# Altium footprint library LQ-TC2&3MB-V5.PcbLib: 38 footprints (part 2 of 3)
Each footprint in its own frame and in the unit in brackets; x right, y up, seen from the top. Pads: shape width x height; smd on the part's side, far side on the other; paste and mask are expansions set on the pad; w line width, h text height; cw(c..) or ccw(c..) is an arc to the next point about the centre after c.
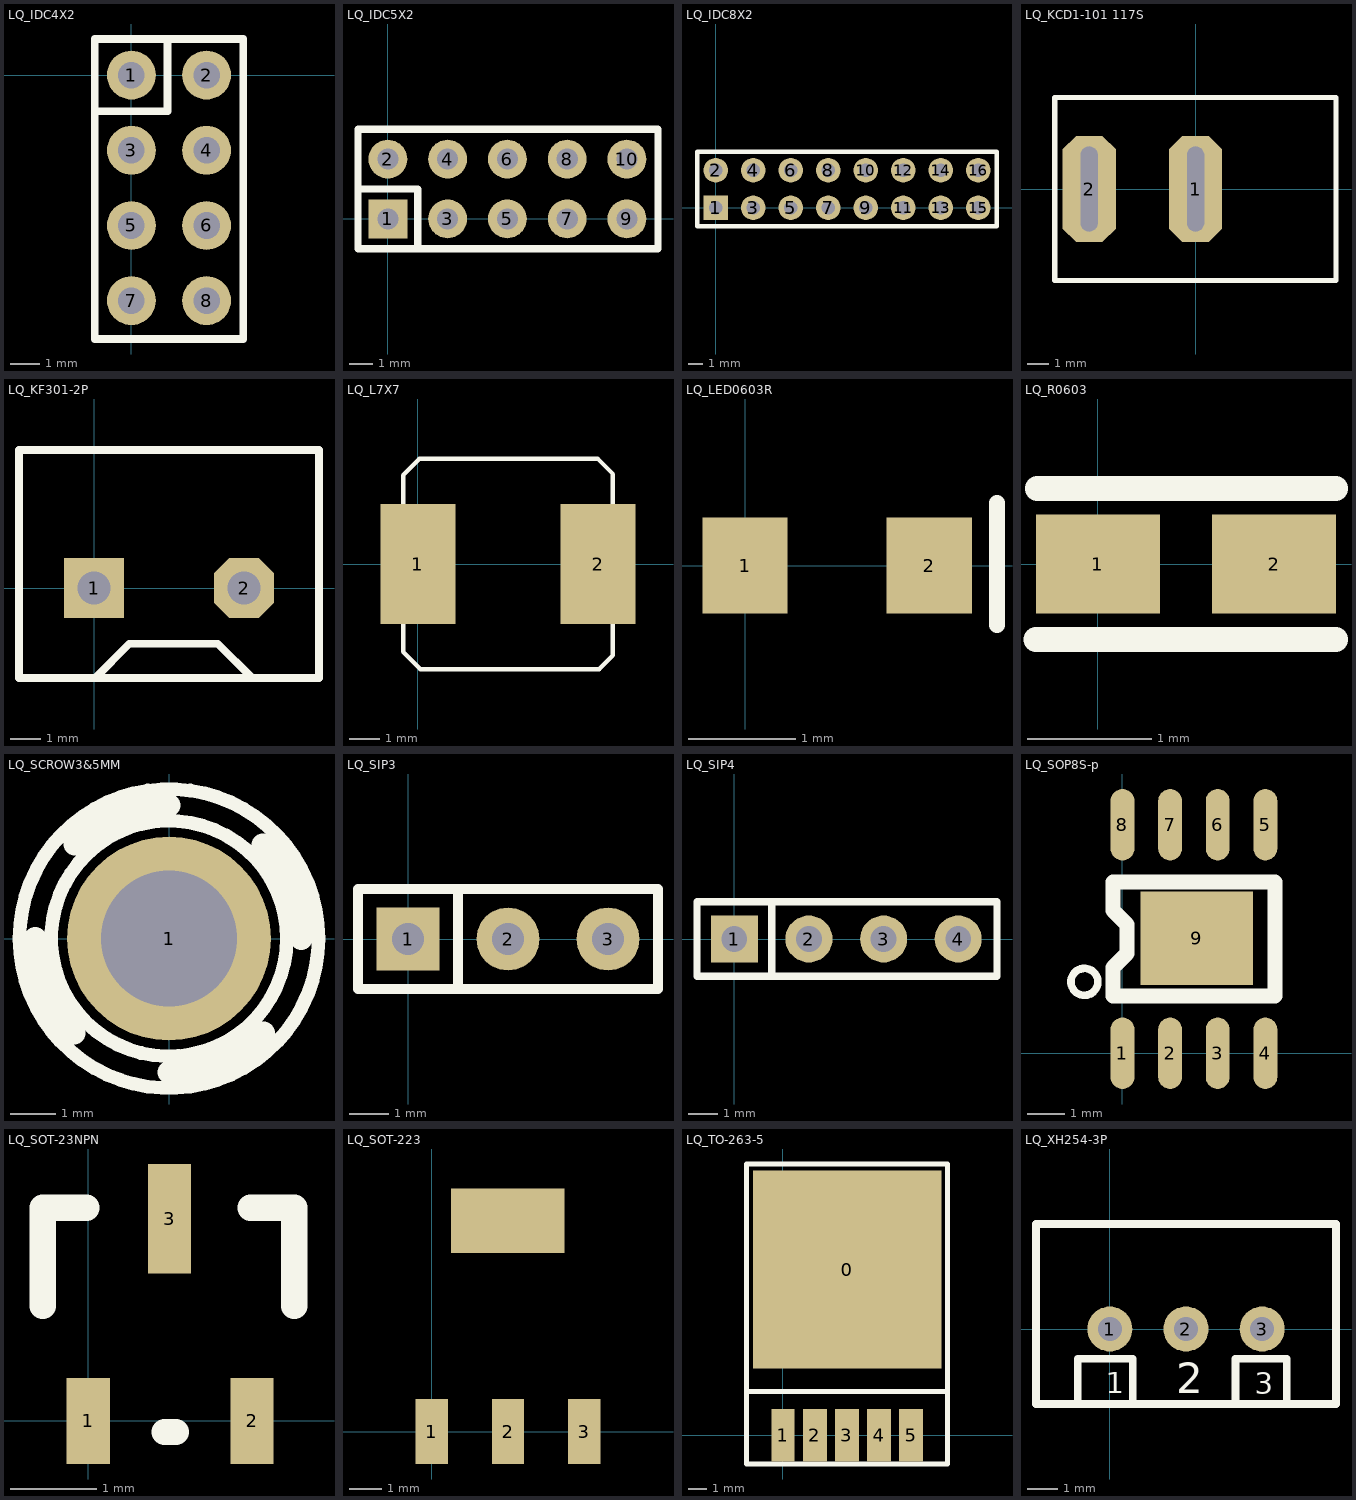
[diagram p1: the footprints below, top view; thin cyan lines are the x and y axes]

## LQ_IDC4X2 [mm]
pads (8):
  round 1.65 hole 0.9: 1(0,0) 2(2.54,0) 3(0,-2.54) 4(2.54,-2.54) 5(0,-5.08) 6(2.54,-5.08) 7(0,-7.62) 8(2.54,-7.62)
Top Overlay:
  lines w0.254: -1.245,-1.219 1.219,-1.219 1.219,1.219 ; -1.245,0.051 -1.245,0.076 ; -1.245,-8.915 3.785,-8.915 3.785,1.219 -1.245,1.219 -1.245,-8.915
3D body "Female-Header-2.54-Double-8.stp": height 8.5, standoff -3.2, extent -1.17,-9.015 3.83,1.395

## LQ_IDC5X2 [mm]
pads (10):
  rect 1.65x1.65 hole 0.9: 1(0,0)
  round 1.65 hole 0.9: 2(0,2.54) 3(2.54,0) 4(2.54,2.54) 5(5.08,0) 6(5.08,2.54) 7(7.62,0) 8(7.62,2.54) 9(10.16,0) 10(10.16,2.54)
Top Overlay:
  lines w0.305: -1.27,1.27 1.27,1.27 1.27,-1.27 ; -1.27,-1.27 -1.27,3.81 11.481,3.81 11.481,-1.27 -1.27,-1.27
3D body "Pin-Header-2.54-Double-10.stp": height 8.5, standoff -3, extent -1.25,-1.26 11.45,3.82

## LQ_IDC8X2 [mm]
pads (16):
  rect 1.65x1.65 hole 0.9: 1(0,0)
  round 1.65 hole 0.9: 2(0,2.54) 3(2.54,0) 4(2.54,2.54) 5(5.08,0) 6(5.08,2.54) 7(7.62,0) 8(7.62,2.54) 9(10.16,0) 10(10.16,2.54) 11(12.7,0) 12(12.7,2.54) 13(15.24,0) 14(15.24,2.54) 15(17.78,0) 16(17.78,2.54)
Top Overlay:
  lines w0.305: -1.27,-1.27 -1.27,3.81 19.05,3.81 19.05,-1.27 -1.27,-1.27

## LQ_KCD1-101 117S [mm]
pads (2):
  oct 2.5x5 hole 0.8 slot 4 at 90 deg: 1(0,0) 2(-5,0)
Top Overlay:
  lines w0.254: -6.61,-4.28 -6.61,4.3 ; -6.6,-4.3 6.6,-4.3 6.6,4.29 ; -6.6,4.3 6.6,4.3
3D body "KCD11-A-101O11RB.STEP": height 14.1, standoff -5, extent -7.54,-5.47 7.46,5.03

## LQ_KF301-2P [mm]
height 1.6
pads (2):
  rect 2x2 hole 1.1: 1(0,0)
  oct 2x2 hole 1.1: 2(5,0)
Top Overlay:
  lines w0.254: 0.04,-3 1.18,-1.86 4.13,-1.86 5.27,-3 ; -2.5,-3 7.5,-3 7.5,4.6 -2.5,4.6 -2.5,-3
3D body "Header-KF301-2.STEP": height 10, standoff -3, extent -2.81,-2.97 7.79,4.63

## LQ_L7X7 [mm]
pads (2):
  rect 2.5x4 smd: 1(0,0) 2(6,0)
Top Overlay:
  lines w0.15: -0.5,-2.93 -0.5,-2.52 -0.5,2.75 -0.5,2.96 0.04,3.5 6,3.5 6.5,3 6.5,2.76 6.5,-2.82 6.5,-3.04 6.04,-3.5 0.07,-3.5 -0.5,-2.93
3D body "L7X7.STEP": height 3, standoff 0, extent -0.605,-3.52 6.645,3.18

## LQ_LED0603R [mm]
pads (2):
  rect 0.8x0.9 smd: 1(0,0) 2(1.727,0)
Top Overlay:
  lines w0.15: 2.362,-0.556 2.362,0.584
3D body "LQ_LED0603R.STEP": height 0.9, standoff 0, extent 0.02,-0.45 1.72,0.45

## LQ_R0603 [mm]
pads (2):
  rect 1x0.8 smd: 1(0,0) 2(1.422,0)
Top Overlay:
  lines w0.2: -0.5,-0.61 1.92,-0.61 ; -0.49,0.61 1.92,0.61
3D body "RES-0603.step": height 0.48, standoff 0.02, extent -0.08,-0.4 1.52,0.4

## LQ_SCROW3&5MM [mm]
pads (1):
  round 4.5 hole 3: 1(0,0)
Top Overlay:
  circle w0.3: c0,0 r2.6
  circle w0.3: c0,0 r3.3
  lines w0.5: -2.952,0 ccw(c0,0) -2.088,-2.088 ; -2.081,2.081 cw(c0,0) 0,2.943 ; 0,-2.95 ccw(c0,0) 2.086,-2.086 ; 2.066,2.066 cw(c0,0) 2.922,0
Bottom Overlay:
  circle w0.3: c0,-0.02 r3.3
  circle w0.3: c0,-0.02 r2.6
  lines w0.5: -2.952,-0.02 ccw(c0,-0.02) -2.088,-2.108 ; -2.081,2.061 cw(c0,-0.02) 0,2.923 ; 0,-2.97 ccw(c0,-0.02) 2.086,-2.106 ; 2.066,2.046 cw(c0,-0.02) 2.922,-0.02
3D body "LQ_SCREW3X5.stp": height 1.3, standoff -8.1, extent -3,-3 3,3

## LQ_SIP3 [mm]
pads (3):
  rect 1.6x1.6 hole 0.82: 1(0,0)
  round 1.6 hole 0.82: 2(2.54,0) 3(5.08,0)
Top Overlay:
  lines w0.254: 1.27,-1.27 1.27,1.27 ; -1.27,-1.27 6.35,-1.27 6.35,1.27 -1.27,1.27 -1.27,-1.27
3D body "Pin-Header-2.54-Single-3.stp": height 8.2, standoff -3, extent -1.46,-1.24 6.16,1.258

## LQ_SIP4 [mm]
pads (4):
  rect 1.6x1.6 hole 0.88: 1(0,0)
  round 1.6 hole 0.88: 2(2.54,0) 3(5.08,0) 4(7.62,0)
Top Overlay:
  lines w0.254: 1.27,-1.27 1.27,1.27 ; 8.93,-1.27 -1.27,-1.27 -1.27,1.27 8.94,1.27 8.94,-1.24
3D body "LQ_SIP4.STEP": height 8.54, standoff -3, extent -1.27,-1.245 8.89,1.245

## LQ_SOP8S-p [mm]
pads (9):
  oval 0.635x1.905 smd: 1(0,0) 2(1.27,0) 3(2.54,0) 4(3.81,0) 5(3.81,6.096) 6(2.54,6.096) 7(1.27,6.096) 8(0,6.096)
  rect 3x2.5 smd: 9(1.98,3.07)
Top Overlay:
  circle w0.203: c-1.016,1.905 r0.359
  lines w0.4: -0.254,1.524 4.064,1.524 4.064,4.572 -0.254,4.572 -0.254,3.81 0.12,3.436 0.12,2.66 -0.254,2.286 -0.254,1.524
3D body "LQ_SOP8-NS.STEP": height 1.7, standoff 0, extent -0.508,0.053 4.318,6.047

## LQ_SOT-23NPN [mm]
pads (3):
  rect 0.5x1 smd: 1(0,0) 2(1.905,0)
  rect 0.5x1.27 smd: 3(0.945,2.352)
Top Overlay:
  lines w0.305: -0.528,1.336 -0.528,2.479 -0.02,2.479 ; 0.889,-0.127 1.016,-0.127 ; 1.885,2.479 2.393,2.479 2.393,1.336
3D body "SOT-23-3.STEP": height 1.2, standoff 0, extent -0.49,-0.17 2.41,2.63

## LQ_SOT-223 [mm]
pads (4):
  rect 1x2 smd: 1(0,0) 2(2.35,0) 3(4.7,0)
  rect 3.5x2 smd: ""(2.34,6.5)
3D body "SOT-223_MP04A.STEP": height 1.7, standoff 0, extent -0.85,-0.18 5.65,6.78

## LQ_TO-263-5 [mil]
pads (6):
  rect 393.7x413.39 smd: 0(134.65,346.46)
  rect 48x110 smd: 1(0,0)
  rect 50x110 smd: 2(67,0) 3(134,0) 4(201,0) 5(268,0)
Top Overlay:
  lines w10: -75.98,-60 -75.98,566.93 344.09,566.93 344.09,-59.84 -75.98,-59.84 ; -75.98,91.73 343.31,91.73
3D body "User Library-TO-263-5.STEP": height 179.53, standoff 0, extent -65.35,-16.14 334.65,535.63

## LQ_XH254-3P [mm]
pads (3):
  round 1.5 hole 0.8: 1(0,0) 2(2.54,0) 3(5.08,0)
Top Overlay:
  lines w0.254: -1.067,-2.5 -1.067,-1.676 -1.067,-0.991 0.762,-0.991 0.762,-1.676 0.762,-2.5 ; 4.191,-2.5 4.191,-0.991 5.893,-0.991 5.893,-2.5 ; -2.46,-2.5 -2.46,3.5 7.54,3.5 7.54,-2.5 -2.46,-2.5
  text "1" at -0.127,-2.134 h0.7
  text "2" at 2.21,-2.134 h1.02
  text "3" at 4.826,-2.159 h0.7
3D body "LQ_XH2.5-3.STEP": height 7, standoff -3.3, extent -2.43,-2.37 7.57,3.33